# Altium schematic symbol library Optoelectronics.SchLib: 2 symbols
Pins are listed as number, name and electrical type; pins without a type are passive.

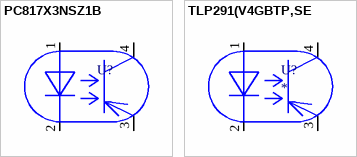
[diagram p0: symbols PC817X3NSZ1B to TLP291(V4GBTP,SE]

## PC817X3NSZ1B
designator U?  (value not drawn)
If - прямой ток: 10 мА; V max к-э: 80 В; Ic - ток коллектора: 50 mA; Visol: 5000 Vrms; Vf: 1.2 В; ComponentLink1Description: DS; ComponentLink1URL: https://ru.mouser.com/datasheet/2/408/TLP291(SE_datasheet_en_20130529-771373.pdf
footprint DIP-4 (DIP; 4 Leads; Row Spacing 7.62 mm; Pitch 2.54 mm)
simulation model PC817 (Copyright  Linear Technology Corp. 1998, 1999, 2000.  All rights reserved)
pins: 1 A, 2 C, 3 E, 4 C

## TLP291(V4GBTP,SE
designator U?
If - прямой ток: 10 мА; V max к-э: 80 В; Ic: 50 mA; Visol: 3750 Vrms; Vf: 1.25 В; ComponentLink1Description: DS; ComponentLink1URL: https://ru.mouser.com/datasheet/2/408/TLP291(SE_datasheet_en_20130529-771373.pdf
footprint SO-4
pins: 1 A, 2 C, 3 E, 4 C